# Altium footprint library lan8720.PcbLib: 1 footprints
Each footprint in its own frame and in the unit in brackets; x right, y up, seen from the top. Pads: shape width x height; smd on the part's side, far side on the other; paste and mask are expansions set on the pad; w line width, h text height; cw(c..) or ccw(c..) is an arc to the next point about the centre after c.
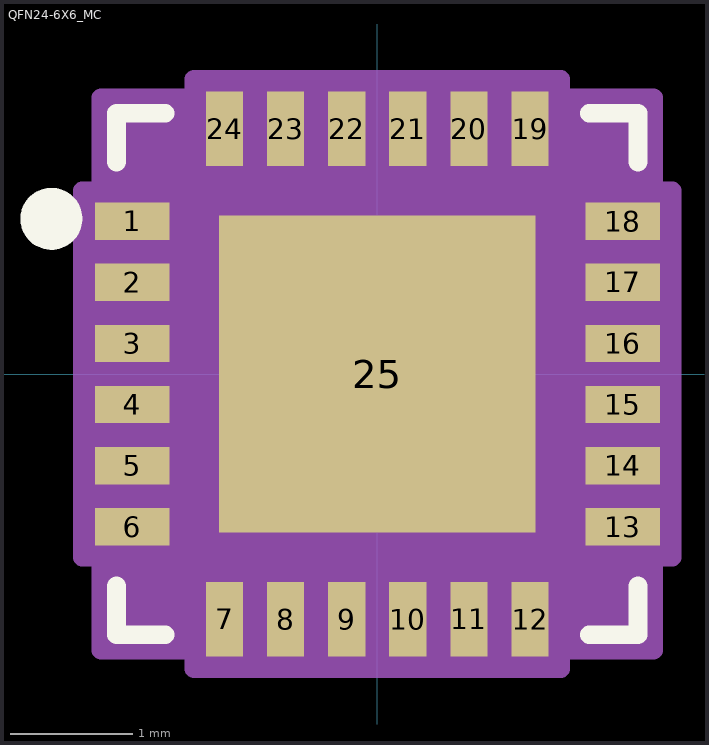
[diagram p0: the footprint, top view; thin cyan lines are the x and y axes]

## QFN24-6X6_MC [mil]
pads (25):
  rect 24x12 smd paste+0 mask+0: 1(-79,49.21) 2(-79,29.53) 3(-79,9.84) 4(-79,-9.84) 5(-79,-29.53) 6(-79,-49.21) 13(79,-49.21) 14(79,-29.53) 15(79,-9.84) 16(79,9.84) 17(79,29.53) 18(79,49.21)
  rect 12x24 smd paste+0 mask+0: 7(-49.21,-79) 8(-29.53,-79) 9(-9.84,-79) 10(9.84,-79) 11(29.53,-79) 12(49.21,-79) 19(49.21,79) 20(29.53,79) 21(9.84,79) 22(-9.84,79) 23(-29.53,79) 24(-49.21,79)
  rect 102x102 smd paste-50.5 mask+0: 25(0,0)
Top Overlay:
  circle w10: c-105,50 r5
  lines w6: -84,-68.31 -84,-84 -68.31,-84 ; -84,68.31 -84,84 -68.31,84 ; 68.31,-84 84,-84 84,-68.31 ; 68.31,84 84,84 84,68.31
Top Paste:
  region: -3.94,47.06 -47.06,47.06 -47.06,3.94 -3.94,3.94
  region: -3.94,-3.94 -47.06,-3.94 -47.06,-47.06 -3.94,-47.06
  region: 47.06,47.06 3.94,47.06 3.94,3.94 47.06,3.94
  region: 47.06,-3.94 3.94,-3.94 3.94,-47.06 47.06,-47.06
Mechanical 13:
  lines w1: -79,-79 79,-79 79,79 -79,79 -79,-79 ; -79,-55.21 -79,-43.21 -79,-55.21 ; -79,-35.53 -79,-23.53 -79,-35.53 ; -79,-15.84 -79,-3.84 -79,-15.84 ; -79,3.84 -79,15.84 -79,3.84 ; -79,23.53 -79,35.53 -79,23.53 ; -79,43.21 -79,55.21 -79,43.21 ; -55.21,-79 -43.21,-79 -55.21,-79 ; -55.21,79 -43.21,79 -55.21,79 ; -35.53,-79 -23.53,-79 -35.53,-79 ; -35.53,79 -23.53,79 -35.53,79 ; -15.84,-79 -3.84,-79 -15.84,-79 ; -15.84,79 -3.84,79 -15.84,79 ; 3.84,-79 15.84,-79 3.84,-79 ; 3.84,79 15.84,79 3.84,79 ; 23.53,-79 35.53,-79 23.53,-79 ; 23.53,79 35.53,79 23.53,79 ; 43.21,-79 55.21,-79 43.21,-79 ; 43.21,79 55.21,79 43.21,79 ; 79,-55.21 79,-43.21 79,-55.21 ; 79,-35.53 79,-23.53 79,-35.53 ; 79,-15.84 79,-3.84 79,-15.84 ; 79,3.84 79,15.84 79,3.84 ; 79,23.53 79,35.53 79,23.53 ; 79,43.21 79,55.21 79,43.21
Mechanical 15:
  region: -59.06,-89 -89,-89 -89,-59.06 -95,-59.06 -95,59.06 -89,59.06 -89,89 -59.06,89 -59.06,95 59.06,95 59.06,89 89,89 89,59.06 95,59.06 95,-59.06 89,-59.06 89,-89 59.06,-89 59.06,-95 -59.06,-95
  lines w6: -95,-59.06 -89,-59.06 -89,-89 -59.06,-89 -59.06,-95 59.06,-95 59.06,-89 89,-89 89,-59.06 95,-59.06 95,59.06 89,59.06 89,89 59.06,89 59.06,95 -59.06,95 -59.06,89 -89,89 -89,59.06 -95,59.06 -95,-59.06
3D body: height 10, standoff 0, extent 0,0 10,10